# EAGLE library part 1X8-HEADER (library ecad)
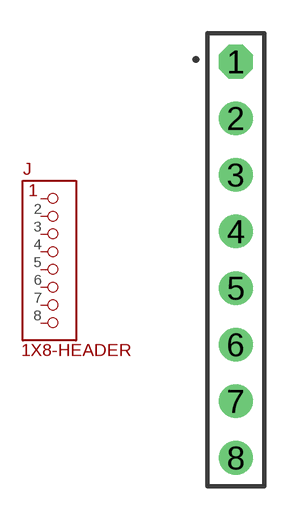
[diagram p0: symbol with the pads of 1X8-HEADER; footprint 1X8-HEADER]

Designator prefix J

## 1X8-HEADER  [1X8-HEADER]
1  1  pas
2  2  pas
3  3  pas
4  4  pas
5  5  pas
6  6  pas
7  7  pas
8  8  pas

## Footprint 1X8-HEADER (pad centres in mm)
drill 1 octagon: 1 0,8.89
drill 1: 2 0,6.35; 3 0,3.81; 4 0,1.27; 5 0,-1.27; 6 0,-3.81; 7 0,-6.35; 8 0,-8.89